# Altium footprint library WR-WTB.PcbLib: 259 footprints (part 5 of 17)
Each footprint in its own frame and in the unit in brackets; x right, y up, seen from the top. Pads: shape width x height; smd on the part's side, far side on the other; paste and mask are expansions set on the pad; w line width, h text height; cw(c..) or ccw(c..) is an arc to the next point about the centre after c.
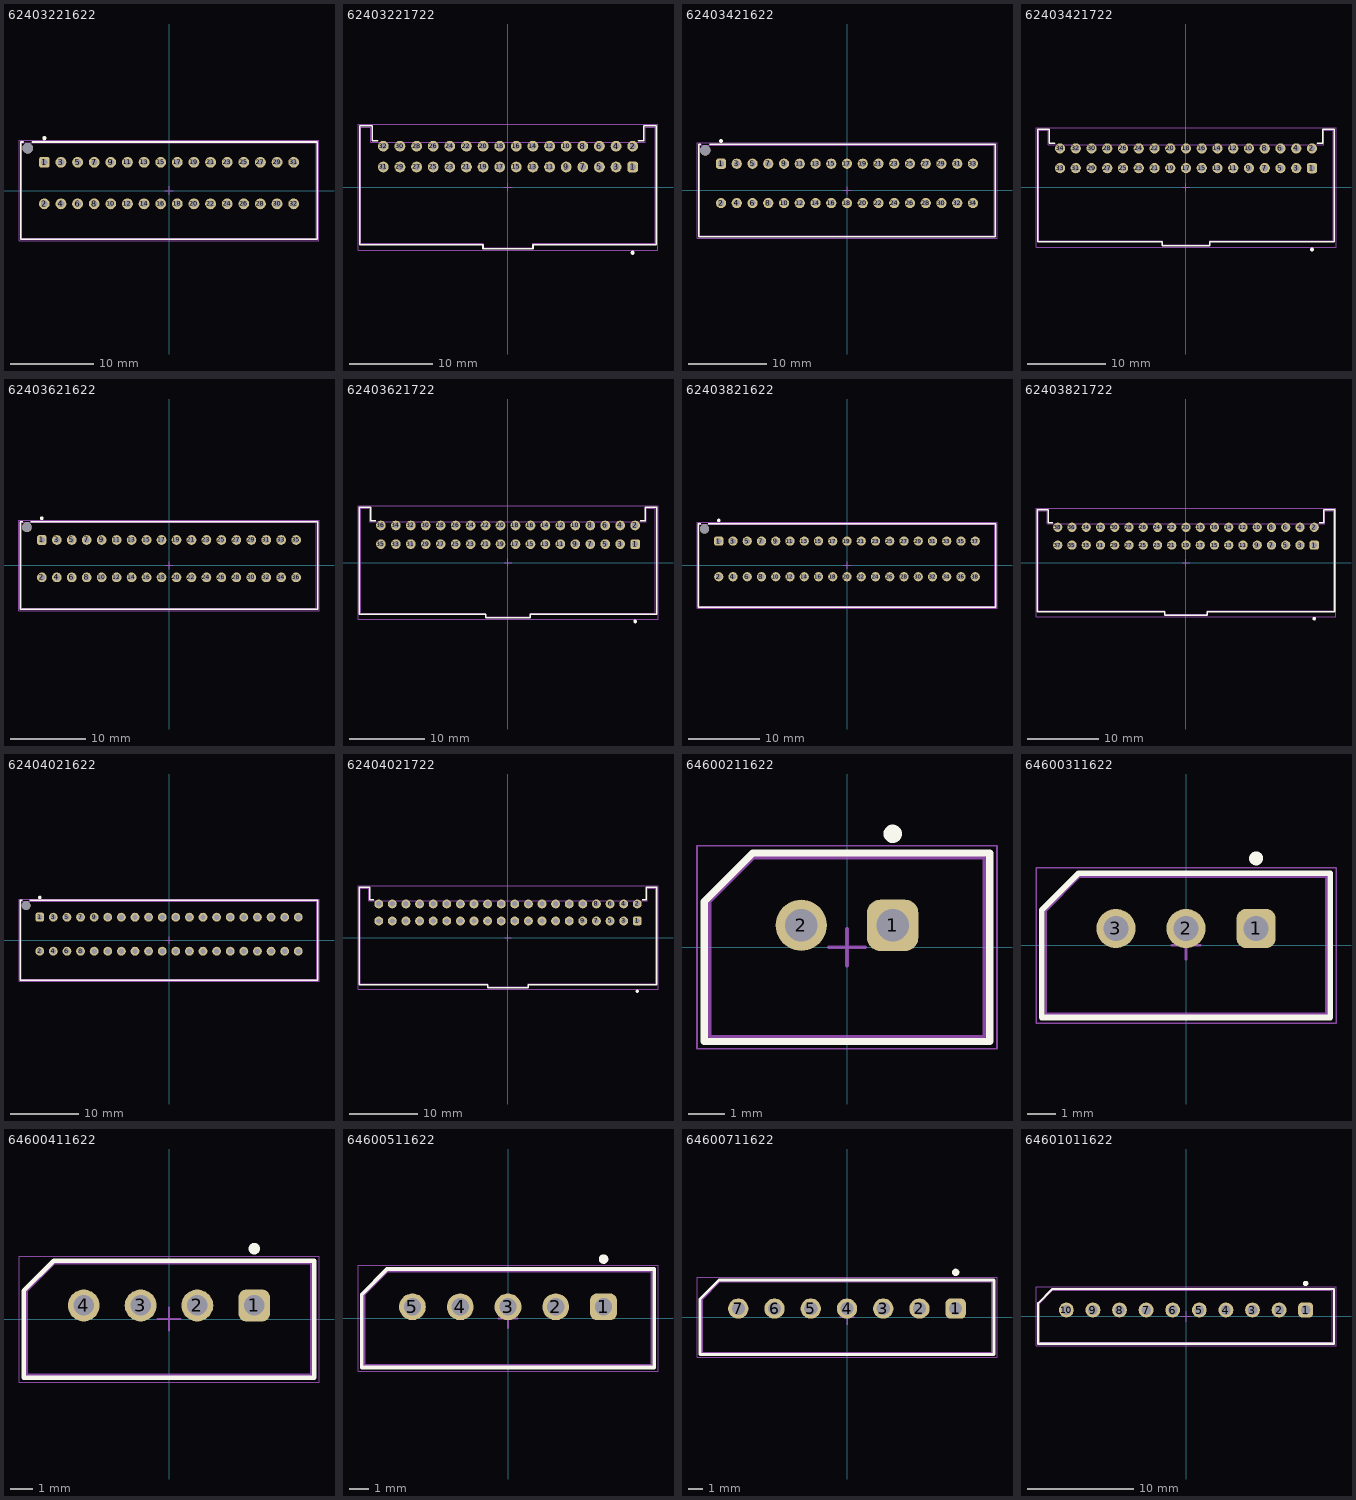
[diagram p4: the footprints below, top view; thin cyan lines are the x and y axes]

## 62403221622 [mm] "2.00mm Male Dual Row Vertical Shrouded Header with positive locking, 32p"
height 11.6
pads (33):
  rrect50% 1.3x1.3 hole 0.8: 1(-15,3.4)
  round 1.3 hole 0.8: 2(-15,-1.6) 3(-13,3.4) 4(-13,-1.6) 5(-11,3.4) 6(-11,-1.6) 7(-9,3.4) 8(-9,-1.6) 9(-7,3.4) 10(-7,-1.6) 11(-5,3.4) 12(-5,-1.6) 13(-3,3.4) 14(-3,-1.6) 15(-1,3.4) 16(-1,-1.6) 17(1,3.4) 18(1,-1.6) 19(3,3.4) 20(3,-1.6) 21(5,3.4) 22(5,-1.6) 23(7,3.4) 24(7,-1.6) 25(9,3.4) 26(9,-1.6) 27(11,3.4) 28(11,-1.6) 29(13,3.4) 30(13,-1.6) 31(15,3.4) 32(15,-1.6)
  round 1.3 hole 1.3 unplated: MH1(-17,5.1)
Top Overlay:
  circle w0.25: c-15,6.3 r0.125
  lines w0.2: -17.55,5.85 -17.85,5.85 -17.85,-5.85 17.85,-5.85 17.85,5.85 -16.45,5.85
Top Assembly:
  lines w0.1: -17.7,-5.75 -17.7,5.75 ; -17.7,-5.75 17.7,-5.75 17.7,5.75 -17.7,5.75 ; -17.7,-5.75 -17.7,5.75
Top Designator:
  text ".Designator" at -3.647,-0.357 h1
Top Courtyard:
  lines w0.05: -18.05,-6.05 18.05,-6.05 18.05,6.05 -18.05,6.05 -18.05,-6.05
Top Component Center:
  lines w0.1: -0.5,0 0.5,0 ; 0,-0.5 0,0.5
3D body "62403221622.stp": height 9.78, standoff -3.17, extent -17.7,-5.75 17.7,5.75

## 62403221722 [mm] "2.00mm Male Dual Row Horizontal Shrouded Header with positive locking, 32p"
height 11.7
pads (32):
  rrect50% 1.3x1.3 hole 0.8: 1(15,2.45)
  round 1.3 hole 0.8: 2(15,4.95) 3(13,2.45) 4(13,4.95) 5(11,2.45) 6(11,4.95) 7(9,2.45) 8(9,4.95) 9(7,2.45) 10(7,4.95) 11(5,2.45) 12(5,4.95) 13(3,2.45) 14(3,4.95) 15(1,2.45) 16(1,4.95) 17(-1,2.45) 18(-1,4.95) 19(-3,2.45) 20(-3,4.95) 21(-5,2.45) 22(-5,4.95) 23(-7,2.45) 24(-7,4.95) 25(-9,2.45) 26(-9,4.95) 27(-11,2.45) 28(-11,4.95) 29(-13,2.45) 30(-13,4.95) 31(-15,2.45) 32(-15,4.95)
Top Overlay:
  circle w0.25: c15,-7.875 r0.125
  lines w0.2: -15.7,5.6 -16.35,5.6 -16.35,7.4 -17.85,7.4 -17.85,-6.9 -3,-6.9 -3,-7.4 3,-7.4 3,-6.9 17.85,-6.9 17.85,7.4 16.35,7.4 16.35,5.6 15.7,5.6
Top Assembly:
  lines w0.1: -17.7,-6.75 -3,-6.75 -3,-7.25 3,-7.25 3,-6.75 17.7,-6.75 17.7,7.25 16.5,7.25 16.5,5.45 -16.5,5.45 -16.5,7.25 -17.7,7.25 -17.7,-6.75
Top Designator:
  text ".Designator" at -3.647,-0.357 h1
Top Courtyard:
  lines w0.05: -18.05,-7.6 18.05,-7.6 18.05,7.6 -18.05,7.6 -18.05,-7.6
Top Component Center:
  lines w0.1: -0.5,0 0.5,0 ; 0,-0.5 0,0.5
3D body "62403221722.stp": height 11.73, standoff -3.17, extent -17.7,-7.25 17.7,7.25

## 62403421622 [mm] "2.00mm Male Dual Row Vertical Shrouded Header with positive locking, 34p"
height 11.6
pads (35):
  rrect50% 1.3x1.3 hole 0.8: 1(-16,3.4)
  round 1.3 hole 0.8: 2(-16,-1.6) 3(-14,3.4) 4(-14,-1.6) 5(-12,3.4) 6(-12,-1.6) 7(-10,3.4) 8(-10,-1.6) 9(-8,3.4) 10(-8,-1.6) 11(-6,3.4) 12(-6,-1.6) 13(-4,3.4) 14(-4,-1.6) 15(-2,3.4) 16(-2,-1.6) 17(0,3.4) 18(0,-1.6) 19(2,3.4) 20(2,-1.6) 21(4,3.4) 22(4,-1.6) 23(6,3.4) 24(6,-1.6) 25(8,3.4) 26(8,-1.6) 27(10,3.4) 28(10,-1.6) 29(12,3.4) 30(12,-1.6) 31(14,3.4) 32(14,-1.6) 33(16,3.4) 34(16,-1.6)
  round 1.3 hole 1.3 unplated: MH1(-18,5.1)
Top Overlay:
  circle w0.25: c-16,6.3 r0.125
  lines w0.2: -18.55,5.85 -18.85,5.85 -18.85,-5.85 18.85,-5.85 18.85,5.85 -17.45,5.85
Top Assembly:
  lines w0.1: -18.7,-5.75 -18.7,5.75 ; -18.7,-5.75 18.7,-5.75 18.7,5.75 -18.7,5.75 ; -18.7,-5.75 -18.7,5.75
Top Designator:
  text ".Designator" at -3.647,-0.357 h1
Top Courtyard:
  lines w0.05: -19.05,-6.05 -19.05,6.05 19.05,6.05 19.05,-6.05 -19.05,-6.05
Top Component Center:
  lines w0.1: -0.5,0 0.5,0 ; 0,-0.5 0,0.5
3D body "62403421622.stp": height 9.78, standoff -3.17, extent -18.7,-5.75 18.7,5.75

## 62403421722 [mm] "2.00mm Male Dual Row Horizontal Shrouded Header with positive locking, 34p"
height 11.7
pads (34):
  rrect50% 1.3x1.3 hole 0.8: 1(16,2.45)
  round 1.3 hole 0.8: 2(16,4.95) 3(14,2.45) 4(14,4.95) 5(12,2.45) 6(12,4.95) 7(10,2.45) 8(10,4.95) 9(8,2.45) 10(8,4.95) 11(6,2.45) 12(6,4.95) 13(4,2.45) 14(4,4.95) 15(2,2.45) 16(2,4.95) 17(0,2.45) 18(0,4.95) 19(-2,2.45) 20(-2,4.95) 21(-4,2.45) 22(-4,4.95) 23(-6,2.45) 24(-6,4.95) 25(-8,2.45) 26(-8,4.95) 27(-10,2.45) 28(-10,4.95) 29(-12,2.45) 30(-12,4.95) 31(-14,2.45) 32(-14,4.95) 33(-16,2.45) 34(-16,4.95)
Top Overlay:
  circle w0.25: c16,-7.875 r0.125
  lines w0.2: -16.7,5.6 -17.35,5.6 -17.35,7.4 -18.85,7.4 -18.85,-6.9 -3,-6.9 -3,-7.4 3,-7.4 3,-6.9 18.85,-6.9 18.85,7.4 17.35,7.4 17.35,5.6 16.7,5.6
Top Assembly:
  lines w0.1: -18.7,-6.75 -3,-6.75 -3,-7.25 3,-7.25 3,-6.75 18.7,-6.75 18.7,7.25 17.5,7.25 17.5,5.45 -17.5,5.45 -17.5,7.25 -18.7,7.25 -18.7,-6.75
Top Designator:
  text ".Designator" at -3.647,-0.357 h1
Top Courtyard:
  lines w0.05: -19.05,-7.6 19.05,-7.6 19.05,7.6 -19.05,7.6 -19.05,-7.6
Top Component Center:
  lines w0.1: -0.5,0 0.5,0 ; 0,-0.5 0,0.5
3D body "62403421722.stp": height 11.73, standoff -3.17, extent -18.7,-7.25 18.7,7.25

## 62403621622 [mm] "2.00mm Male Dual Row Vertical Shrouded Header with positive locking, 36p"
height 11.6
pads (37):
  rrect50% 1.3x1.3 hole 0.8: 1(-17,3.4)
  round 1.3 hole 0.8: 2(-17,-1.6) 3(-15,3.4) 4(-15,-1.6) 5(-13,3.4) 6(-13,-1.6) 7(-11,3.4) 8(-11,-1.6) 9(-9,3.4) 10(-9,-1.6) 11(-7,3.4) 12(-7,-1.6) 13(-5,3.4) 14(-5,-1.6) 15(-3,3.4) 16(-3,-1.6) 17(-1,3.4) 18(-1,-1.6) 19(1,3.4) 20(1,-1.6) 21(3,3.4) 22(3,-1.6) 23(5,3.4) 24(5,-1.6) 25(7,3.4) 26(7,-1.6) 27(9,3.4) 28(9,-1.6) 29(11,3.4) 30(11,-1.6) 31(13,3.4) 32(13,-1.6) 33(15,3.4) 34(15,-1.6) 35(17,3.4) 36(17,-1.6)
  round 1.3 hole 1.3 unplated: MH1(-19,5.1)
Top Overlay:
  circle w0.25: c-17,6.3 r0.125
  lines w0.2: -19.55,5.85 -19.85,5.85 -19.85,-5.85 19.85,-5.85 19.85,5.85 -18.45,5.85
Top Assembly:
  lines w0.1: -19.7,-5.75 -19.7,5.75 ; -19.7,-5.75 19.7,-5.75 19.7,5.75 -19.7,5.75 ; -19.7,-5.75 -19.7,5.75
Top Designator:
  text ".Designator" at -3.647,-0.357 h1
Top Courtyard:
  lines w0.05: -20.05,-6.05 20.05,-6.05 20.05,6.05 -20.05,6.05 -20.05,-6.05
Top Component Center:
  lines w0.1: -0.5,0 0.5,0 ; 0,-0.5 0,0.5
3D body "62403621622.stp": height 9.78, standoff -3.17, extent -19.7,-5.75 19.7,5.75

## 62403621722 [mm] "2.00mm Male Dual Row Horizontal Shrouded Header with positive locking, 36p"
height 11.7
pads (36):
  rrect50% 1.3x1.3 hole 0.8: 1(17,2.45)
  round 1.3 hole 0.8: 2(17,4.95) 3(15,2.45) 4(15,4.95) 5(13,2.45) 6(13,4.95) 7(11,2.45) 8(11,4.95) 9(9,2.45) 10(9,4.95) 11(7,2.45) 12(7,4.95) 13(5,2.45) 14(5,4.95) 15(3,2.45) 16(3,4.95) 17(1,2.45) 18(1,4.95) 19(-1,2.45) 20(-1,4.95) 21(-3,2.45) 22(-3,4.95) 23(-5,2.45) 24(-5,4.95) 25(-7,2.45) 26(-7,4.95) 27(-9,2.45) 28(-9,4.95) 29(-11,2.45) 30(-11,4.95) 31(-13,2.45) 32(-13,4.95) 33(-15,2.45) 34(-15,4.95) 35(-17,2.45) 36(-17,4.95)
Top Overlay:
  circle w0.25: c17,-7.875 r0.125
  lines w0.2: -17.7,5.6 -18.35,5.6 -18.35,7.4 -19.85,7.4 -19.85,-6.9 -3,-6.9 -3,-7.4 3,-7.4 3,-6.9 19.85,-6.9 19.85,7.4 18.35,7.4 18.35,5.6 17.7,5.6
Top Assembly:
  lines w0.1: -19.7,-6.75 -19.7,7.25 -18.5,7.25 -18.5,5.45 18.5,5.45 18.5,7.25 19.7,7.25 19.7,-6.75 3,-6.75 3,-7.25 -3,-7.25 -3,-6.75 -19.7,-6.75
Top Designator:
  text ".Designator" at -3.647,-0.357 h1
Top Courtyard:
  lines w0.05: -20.05,-7.6 -20.05,7.6 20.05,7.6 20.05,-7.6 -20.05,-7.6
Top Component Center:
  lines w0.1: -0.5,0 0.5,0 ; 0,-0.5 0,0.5
3D body "62403621722.stp": height 11.73, standoff -3.17, extent -19.7,-7.25 19.7,7.25

## 62403821622 [mm] "2.00mm Male Dual Row Vertical Shrouded Header with positive locking, 38p"
height 11.6
pads (39):
  rrect50% 1.3x1.3 hole 0.8: 1(-18,3.4)
  round 1.3 hole 0.8: 2(-18,-1.6) 3(-16,3.4) 4(-16,-1.6) 5(-14,3.4) 6(-14,-1.6) 7(-12,3.4) 8(-12,-1.6) 9(-10,3.4) 10(-10,-1.6) 11(-8,3.4) 12(-8,-1.6) 13(-6,3.4) 14(-6,-1.6) 15(-4,3.4) 16(-4,-1.6) 17(-2,3.4) 18(-2,-1.6) 19(0,3.4) 20(0,-1.6) 21(2,3.4) 22(2,-1.6) 23(4,3.4) 24(4,-1.6) 25(6,3.4) 26(6,-1.6) 27(8,3.4) 28(8,-1.6) 29(10,3.4) 30(10,-1.6) 31(12,3.4) 32(12,-1.6) 33(14,3.4) 34(14,-1.6) 35(16,3.4) 36(16,-1.6) 37(18,3.4) 38(18,-1.6)
  round 1.3 hole 1.3 unplated: MH1(-20,5.1)
Top Overlay:
  circle w0.25: c-18,6.3 r0.125
  lines w0.2: -20.55,5.85 -20.85,5.85 -20.85,-5.85 20.85,-5.85 20.85,5.85 -19.45,5.85
Top Assembly:
  lines w0.1: -20.7,-5.75 -20.7,5.75 ; -20.7,-5.75 20.7,-5.75 20.7,5.75 -20.7,5.75 ; -20.7,-5.75 -20.7,5.75
Top Designator:
  text ".Designator" at -3.647,-0.357 h1
Top Courtyard:
  lines w0.05: -21.05,-6.05 -21.05,6.05 21.05,6.05 21.05,-6.05 -21.05,-6.05
Top Component Center:
  lines w0.1: -0.5,0 0.5,0 ; 0,-0.5 0,0.5
3D body "62403821622.stp": height 9.78, standoff -3.17, extent -20.7,-5.75 20.7,5.75

## 62403821722 [mm] "2.00mm Male Dual Row Horizontal Shrouded Header with positive locking, 38p"
height 11.7
pads (38):
  rrect50% 1.3x1.3 hole 0.8: 1(18,2.45)
  round 1.3 hole 0.8: 2(18,4.95) 3(16,2.45) 4(16,4.95) 5(14,2.45) 6(14,4.95) 7(12,2.45) 8(12,4.95) 9(10,2.45) 10(10,4.95) 11(8,2.45) 12(8,4.95) 13(6,2.45) 14(6,4.95) 15(4,2.45) 16(4,4.95) 17(2,2.45) 18(2,4.95) 19(0,2.45) 20(0,4.95) 21(-2,2.45) 22(-2,4.95) 23(-4,2.45) 24(-4,4.95) 25(-6,2.45) 26(-6,4.95) 27(-8,2.45) 28(-8,4.95) 29(-10,2.45) 30(-10,4.95) 31(-12,2.45) 32(-12,4.95) 33(-14,2.45) 34(-14,4.95) 35(-16,2.45) 36(-16,4.95) 37(-18,2.45) 38(-18,4.95)
Top Overlay:
  circle w0.25: c18,-7.875 r0.125
  lines w0.2: -18.7,5.6 -19.35,5.6 -19.35,7.4 -20.85,7.4 -20.85,-6.9 -3,-6.9 -3,-7.4 3,-7.4 3,-6.9 20.85,-6.9 20.85,7.4 19.35,7.4 19.35,5.6 18.7,5.6
Top Assembly:
  lines w0.1: -20.7,-6.75 -20.7,7.25 -19.5,7.25 -19.5,5.45 19.5,5.45 19.5,7.25 20.7,7.25 20.7,-6.75 3,-6.75 3,-7.25 -3,-7.25 -3,-6.75 -20.7,-6.75
Top Designator:
  text ".Designator" at -3.647,-0.357 h1
Top Courtyard:
  lines w0.05: -21.05,-7.6 -21.05,7.6 21.05,7.6 21.05,-7.6 -21.05,-7.6
Top Component Center:
  lines w0.1: -0.5,0 0.5,0 ; 0,-0.5 0,0.5
3D body "62403821722.stp": height 11.73, standoff -3.17, extent -20.7,-7.25 20.7,7.25

## 62404021622 [mm] "2.00mm Male Dual Row Vertical Shrouded Header with positive locking, 40p"
height 11.6
pads (41):
  rrect50% 1.3x1.3 hole 0.8: 1(-19,3.4)
  round 1.3 hole 0.8: 2(-19,-1.6) 3(-17,3.4) 4(-17,-1.6) 5(-15,3.4) 6(-15,-1.6) 7(-13,3.4) 8(-13,-1.6) 9(-11,3.4) 10(-11,-1.6) 11(-9,3.4) 12(-9,-1.6) 13(-7,3.4) 14(-7,-1.6) 15(-5,3.4) 16(-5,-1.6) 17(-3,3.4) 18(-3,-1.6) 19(-1,3.4) 20(-1,-1.6) 21(1,3.4) 22(1,-1.6) 23(3,3.4) 24(3,-1.6) 25(5,3.4) 26(5,-1.6) 27(7,3.4) 28(7,-1.6) 29(9,3.4) 30(9,-1.6) 31(11,3.4) 32(11,-1.6) 33(13,3.4) 34(13,-1.6) 35(15,3.4) 36(15,-1.6) 37(17,3.4) 38(17,-1.6) 39(19,3.4) 40(19,-1.6)
  round 1.3 hole 1.3 unplated: MH1(-21,5.1)
Top Overlay:
  circle w0.25: c-19,6.3 r0.125
  lines w0.2: -21.55,5.85 -21.85,5.85 -21.85,-5.85 21.85,-5.85 21.85,5.85 -20.45,5.85
Top Assembly:
  lines w0.1: -21.7,-5.75 -21.7,5.75 ; -21.7,-5.75 21.7,-5.75 21.7,5.75 -21.7,5.75 ; -21.7,-5.75 -21.7,5.75
Top Designator:
  text ".Designator" at -3.647,-0.357 h1
Top Courtyard:
  lines w0.05: -22.05,-6.05 -22.05,6.05 22.05,6.05 22.05,-6.05 -22.05,-6.05
Top Component Center:
  lines w0.1: -0.5,0 0.5,0 ; 0,-0.5 0,0.5
3D body "62404021622.stp": height 9.78, standoff -3.17, extent -21.7,-5.75 21.7,5.75

## 62404021722 [mm] "2.00mm Male Dual Row Horizontal Shrouded Header with positive locking, 40p"
height 11.7
pads (40):
  rrect50% 1.3x1.3 hole 0.8: 1(19,2.45)
  round 1.3 hole 0.8: 2(19,4.95) 3(17,2.45) 4(17,4.95) 5(15,2.45) 6(15,4.95) 7(13,2.45) 8(13,4.95) 9(11,2.45) 10(11,4.95) 11(9,2.45) 12(9,4.95) 13(7,2.45) 14(7,4.95) 15(5,2.45) 16(5,4.95) 17(3,2.45) 18(3,4.95) 19(1,2.45) 20(1,4.95) 21(-1,2.45) 22(-1,4.95) 23(-3,2.45) 24(-3,4.95) 25(-5,2.45) 26(-5,4.95) 27(-7,2.45) 28(-7,4.95) 29(-9,2.45) 30(-9,4.95) 31(-11,2.45) 32(-11,4.95) 33(-13,2.45) 34(-13,4.95) 35(-15,2.45) 36(-15,4.95) 37(-17,2.45) 38(-17,4.95) 39(-19,2.45) 40(-19,4.95)
Top Overlay:
  circle w0.25: c19,-7.875 r0.125
  lines w0.2: -19.7,5.6 -20.35,5.6 -20.35,7.4 -21.85,7.4 -21.85,-6.9 -3,-6.9 -3,-7.4 3,-7.4 3,-6.9 21.85,-6.9 21.85,7.4 20.35,7.4 20.35,5.6 19.7,5.6
Top Assembly:
  lines w0.1: -21.7,-6.75 -3,-6.75 -3,-7.25 3,-7.25 3,-6.75 21.7,-6.75 21.7,7.25 20.5,7.25 20.5,5.45 -20.5,5.45 -20.5,7.25 -21.7,7.25 -21.7,-6.75
Top Designator:
  text ".Designator" at -3.647,-0.357 h1
Top Courtyard:
  lines w0.05: -22.05,-7.6 22.05,-7.6 22.05,7.6 -22.05,7.6 -22.05,-7.6
Top Component Center:
  lines w0.1: -0.5,0 0.5,0 ; 0,-0.5 0,0.5
3D body "62404021722.stp": height 11.73, standoff -3.17, extent -21.7,-7.25 21.7,7.25

## 64600211622 [mm] "2.50mm Male Shrouded Header, 2p"
height 5.9
pads (2):
  rrect50% 1.4x1.4 hole 0.9: 1(1.25,0.6)
  round 1.4 hole 0.9: 2(-1.25,0.6)
Top Overlay:
  circle w0.25: c1.25,3.1 r0.125
  lines w0.2: -3.9,-2.575 -3.9,1.25 -2.575,2.575 3.9,2.575 3.9,-2.575 -3.9,-2.575
Top Assembly:
  lines w0.1: -3.75,-2.45 3.75,-2.45 3.75,2.45 -2.55,2.45 -3.75,1.25 -3.75,-2.45
Top Designator:
  text ".Designator" at -3.647,-0.357 h1
Top Courtyard:
  lines w0.05: -4.1,-2.775 4.1,-2.775 4.1,2.775 -4.1,2.775 -4.1,-2.775
Top Component Center:
  lines w0.1: -0.5,0 0.5,0 ; 0,-0.5 0,0.5
3D body "64600211622 (rev1).stp": height 5.93, standoff -3.47, extent -3.7,-2.45 3.7,2.45

## 64600311622 [mm] "2.50mm Male Shrouded Header, 3p"
height 5.9
pads (3):
  rrect50% 1.4x1.4 hole 0.9: 1(2.5,0.6)
  round 1.4 hole 0.9: 2(0,0.6) 3(-2.5,0.6)
Top Overlay:
  circle w0.25: c2.5,3.1 r0.125
  lines w0.2: -5.15,-2.575 5.15,-2.575 5.15,2.575 -3.825,2.575 -5.15,1.25 -5.15,-2.575
Top Assembly:
  lines w0.1: -5,-2.45 -5,1.25 -3.8,2.45 5,2.45 5,-2.45 -5,-2.45
Top Designator:
  text ".Designator" at -3.647,-0.357 h1
Top Courtyard:
  lines w0.05: -5.35,-2.775 -5.35,2.775 5.35,2.775 5.35,-2.775 -5.35,-2.775
Top Component Center:
  lines w0.1: -0.5,0 0.5,0 ; 0,-0.5 0,0.5
3D body "64600311622 (rev1).stp": height 5.93, standoff -3.47, extent -4.95,-2.45 4.95,2.45

## 64600411622 [mm] "2.50mm Male Shrouded Header, 4p"
height 5.9
pads (4):
  rrect50% 1.4x1.4 hole 0.9: 1(3.75,0.6)
  round 1.4 hole 0.9: 2(1.25,0.6) 3(-1.25,0.6) 4(-3.75,0.6)
Top Overlay:
  circle w0.25: c3.75,3.1 r0.125
  lines w0.2: -6.4,-2.575 -6.4,1.25 -5.075,2.575 6.4,2.575 6.4,-2.575 -6.4,-2.575
Top Assembly:
  lines w0.1: -6.25,-2.45 6.25,-2.45 6.25,2.45 -5.05,2.45 -6.25,1.25 -6.25,-2.45
Top Designator:
  text ".Designator" at -3.647,-0.357 h1
Top Courtyard:
  lines w0.05: -6.6,-2.775 6.6,-2.775 6.6,2.775 -6.6,2.775 -6.6,-2.775
Top Component Center:
  lines w0.1: -0.5,0 0.5,0 ; 0,-0.5 0,0.5
3D body "64600411622 (rev1).stp": height 5.93, standoff -3.47, extent -6.2,-2.45 6.2,2.45

## 64600511622 [mm] "2.50mm Male Shrouded Header, 5p"
height 5.9
pads (5):
  rrect50% 1.4x1.4 hole 0.9: 1(5,0.6)
  round 1.4 hole 0.9: 2(2.5,0.6) 3(0,0.6) 4(-2.5,0.6) 5(-5,0.6)
Top Overlay:
  circle w0.25: c5,3.1 r0.125
  lines w0.2: -7.65,-2.575 7.65,-2.575 7.65,2.575 -6.325,2.575 -7.65,1.25 -7.65,-2.575
Top Assembly:
  lines w0.1: -7.5,-2.45 7.5,-2.45 7.5,2.45 -6.3,2.45 -7.5,1.25 -7.5,-2.45
Top Designator:
  text ".Designator" at -3.647,-0.357 h1
Top Courtyard:
  lines w0.05: -7.85,-2.775 -7.85,2.775 7.85,2.775 7.85,-2.775 -7.85,-2.775
Top Component Center:
  lines w0.1: -0.5,0 0.5,0 ; 0,-0.5 0,0.5
3D body "64600511622 (rev1).stp": height 5.93, standoff -3.47, extent -7.45,-2.45 7.45,2.45

## 64600711622 [mm] "2.50mm Male Shrouded Header, 7p"
height 5.9
pads (7):
  rrect50% 1.4x1.4 hole 0.9: 1(7.5,0.6)
  round 1.4 hole 0.9: 2(5,0.6) 3(2.5,0.6) 4(0,0.6) 5(-2.5,0.6) 6(-5,0.6) 7(-7.5,0.6)
Top Overlay:
  circle w0.25: c7.5,3.1 r0.125
  lines w0.2: -10.15,-2.575 10.15,-2.575 10.15,2.575 -8.825,2.575 -10.15,1.25 -10.15,-2.575
Top Assembly:
  lines w0.1: -10,-2.45 -10,1.25 -8.8,2.45 10,2.45 10,-2.45 -10,-2.45
Top Designator:
  text ".Designator" at -3.647,-0.357 h1
Top Courtyard:
  lines w0.05: -10.35,-2.775 -10.35,2.775 10.35,2.775 10.35,-2.775 -10.35,-2.775
Top Component Center:
  lines w0.1: -0.5,0 0.5,0 ; 0,-0.5 0,0.5
3D body "64600711622 (rev1).stp": height 5.93, standoff -3.47, extent -9.95,-2.45 9.95,2.45

## 64601011622 [mm] "2.50mm Male Shrouded Header, 10p"
height 5.9
pads (10):
  rrect50% 1.4x1.4 hole 0.9: 1(11.25,0.6)
  round 1.4 hole 0.9: 2(8.75,0.6) 3(6.25,0.6) 4(3.75,0.6) 5(1.25,0.6) 6(-1.25,0.6) 7(-3.75,0.6) 8(-6.25,0.6) 9(-8.75,0.6) 10(-11.25,0.6)
Top Overlay:
  circle w0.25: c11.25,3.1 r0.125
  lines w0.2: -13.9,-2.575 -13.9,1.25 -12.575,2.575 13.9,2.575 13.9,-2.575 -13.9,-2.575
Top Assembly:
  lines w0.1: -13.75,-2.45 13.75,-2.45 13.75,2.45 -12.55,2.45 -13.75,1.25 -13.75,-2.45
Top Designator:
  text ".Designator" at -3.647,-0.357 h1
Top Courtyard:
  lines w0.05: -14.1,-2.775 14.1,-2.775 14.1,2.775 -14.1,2.775 -14.1,-2.775
Top Component Center:
  lines w0.1: -0.5,0 0.5,0 ; 0,-0.5 0,0.5
3D body "64601011622 (rev1).stp": height 5.93, standoff -3.47, extent -13.7,-2.45 13.7,2.45